# Altium schematic symbol library Components.SchLib: 8 symbols
Pins are listed as number, name and electrical type; pins without a type are passive.

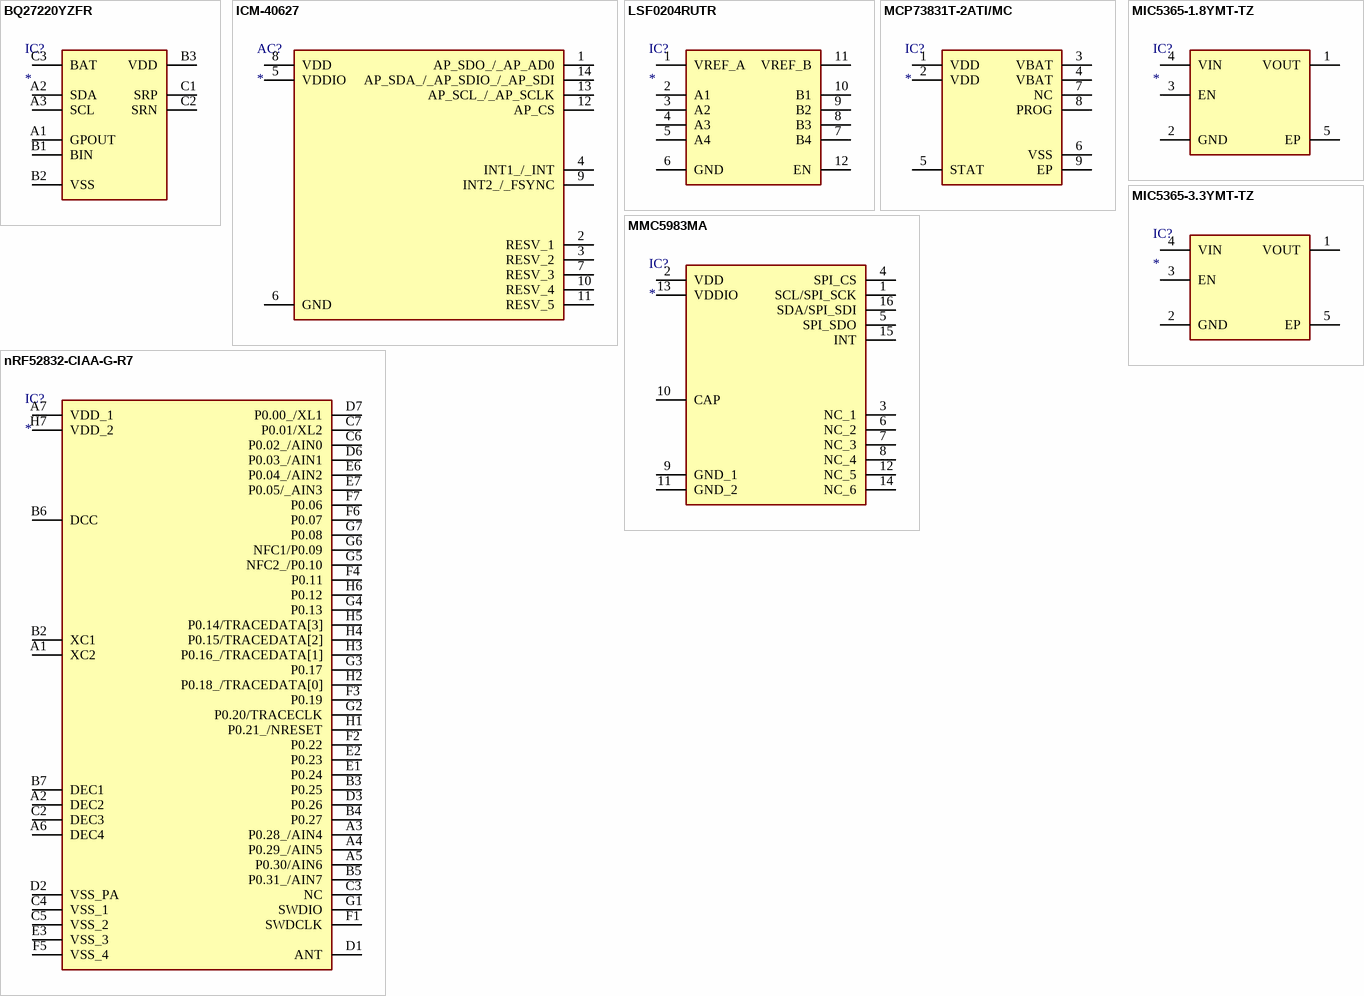
[diagram p0: symbols BQ27220YZFR to nRF52832-CIAA-G-R7]

## BQ27220YZFR
designator IC?
Integrated Circuit; Manufacturer_Name: Texas Instruments; Manufacturer_Part_Number: BQ27220YZFR; Datasheet Link: http://www.ti.com/lit/ds/symlink/bq27220.pdf; Height: 0.625mm; Mouser Part Number: 595-BQ27220YZFR; Mouser Price/Stock: https://www.mouser.co.uk/ProductDetail/Texas-Instruments/BQ27220YZFR?qs=dSktwyqbRaX%252B5G1xe9oNWw%3D%3D; Arrow Part Number: BQ27220YZFR; Arrow Price/Stock: https://www.arrow.com/en/products/bq27220yzfr/texas-instruments?region=nac
footprint BGA9C50P3X3_158X162X62
pins: A1 GPOUT, A2 SDA, A3 SCL, B1 BIN, B2 VSS, B3 VDD, C1 SRP, C2 SRN, C3 BAT

## ICM-40627
designator AC?
Accelerometer; Manufacturer_Name: TDK; Manufacturer_Part_Number: ICM-40627; Datasheet Link: https://3cfeqx1hf82y3xcoull08ihx-wpengine.netdna-ssl.com/wp-content/uploads/2021/04/DS-000381-ICM-40627-v1.2.pdf; Mouser Part Number: 410-ICM-40627; Mouser Price/Stock: https://www.mouser.co.uk/ProductDetail/TDK-InvenSense/ICM-40627?qs=iLbezkQI%252BsgePVjJNSY7vQ%3D%3D; Arrow Part Number: ICM-40627; Arrow Price/Stock: https://www.arrow.com/en/products/icm-40627/invensense?region=nac
footprint ICM-40627
pins: 1 AP_SDO_/_AP_AD0, 2 RESV_1, 3 RESV_2, 4 INT1_/_INT, 5 VDDIO, 6 GND, 7 RESV_3, 8 VDD, 9 INT2_/_FSYNC, 10 RESV_4, 11 RESV_5, 12 AP_CS, 13 AP_SCL_/_AP_SCLK, 14 AP_SDA_/_AP_SDIO_/_AP_SDI

## LSF0204RUTR
designator IC?
Integrated Circuit; Manufacturer_Name: Texas Instruments; Manufacturer_Part_Number: LSF0204RUTR; Description: 4-Bit Bidirectional Multi-Voltage Level Translator for Open-Drain & Push- Pull; Datasheet Link: http://www.ti.com/lit/gpn/lsf0204; Mouser Part Number: 595-LSF0204RUTR; Mouser Price/Stock: https://www.mouser.co.uk/ProductDetail/Texas-Instruments/LSF0204RUTR?qs=m%2F7bTylgptfw1v7l22jn0g%3D%3D; Arrow Part Number: LSF0204RUTR; Arrow Price/Stock: https://www.arrow.com/en/products/lsf0204rutr/texas-instruments?region=nac
footprint RUT(R-PUQFN-N12)
pins: 1 VREF_A, 2 A1, 3 A2, 4 A3, 5 A4, 6 GND, 7 B4, 8 B3, 9 B2, 10 B1, 11 VREF_B, 12 EN

## MCP73831T-2ATI/MC
designator IC?
Battery Management Charge mgnt contr; Manufacturer_Name: Microchip; Manufacturer_Part_Number: MCP73831T-2ATI/MC; Datasheet Link: https://www.mouser.pl/datasheet/2/268/20001984g-846362.pdf; Mouser Part Number: 579-MCP73831T-2ATIMC
footprint SON65P300X300X80-9N-D
pins: 1 VDD, 2 VDD, 3 VBAT, 4 VBAT, 5 STAT, 6 VSS, 7 NC, 8 PROG, 9 EP

## MIC5365-1.8YMT-TZ
designator IC?
Manufacturer_Name: MICREL; Manufacturer_Part_Number: MIC5365-1.8YMT-TZ; Datasheet Link: https://www.mouser.pl/datasheet/2/268/mic5365-1082359.pdf; Mouser Part Number: 998-MIC5365-3.3YMTTZ
footprint MIC5365-1.8YMTTZ
pins: 1 VOUT, 2 GND, 3 EN, 4 VIN, 5 EP

## MIC5365-3.3YMT-TZ
designator IC?
Manufacturer_Name: MICREL; Manufacturer_Part_Number: MIC5365-3.3YMT-TZ; Datasheet Link: https://www.mouser.pl/datasheet/2/268/mic5365-1082359.pdf; Mouser Part Number: 998-MIC5365-3.3YMTTZ
footprint MIC5365-3.3YMTTZ
pins: 1 VOUT, 2 GND, 3 EN, 4 VIN, 5 EP

## MMC5983MA
designator IC?
Integrated Circuit; Manufacturer_Name: MEMSIC; Manufacturer_Part_Number: MMC5983MA; Datasheet Link: https://www.mouser.com/datasheet/2/821/Memsic_09102019_MMC5983MA_Datasheet_Rev_A-1635338.pdf; Height: 1mm; Mouser Part Number: 438-MMC5983MA; Mouser Price/Stock: https://www.mouser.co.uk/ProductDetail/MEMSIC/MMC5983MA?qs=B6kkDfuK7%2FD5qasHMdEt2g%3D%3D; Arrow Part Number: MMC5983MA; Arrow Price/Stock: https://www.arrow.com/en/products/mmc5983ma/memsic?region=nac
footprint MMC5983MA
pins: 1 SCL/SPI_SCK, 2 VDD, 3 NC_1, 4 SPI_CS, 5 SPI_SDO, 6 NC_2, 7 NC_3, 8 NC_4, 9 GND_1, 10 CAP, 11 GND_2, 12 NC_5, 13 VDDIO, 14 NC_6, 15 INT, 16 SDA/SPI_SDI

## nRF52832-CIAA-G-R7
designator IC?
Integrated Circuit; Manufacturer_Name: Nordic Semiconductor; Manufacturer_Part_Number: nRF52832-CIAA-G-R7; Datasheet Link: https://infocenter.nordicsemi.com/pdf/nRF52832_PS_v1.8.pdf; Height: 0.399mm; Mouser Part Number: 949-NRF52832CIAAG-R7; Mouser Price/Stock: https://www.mouser.co.uk/ProductDetail/Nordic-Semiconductor/nRF52832-CIAA-G-R7?qs=TCDPyi3sCW0%252B18bmEBENMQ%3D%3D; Arrow Part Number: NRF52832-CIAA-G-R7; Arrow Price/Stock: https://www.arrow.com/en/products/nrf52832-ciaa-g-r7/nordic-semiconductor?region=nac
footprint BGA50C40P7X8_296X323X40
pins: A1 XC2, A2 DEC2, A3 P0.28_/AIN4, A4 P0.29_/AIN5, A5 P0.30/AIN6, A6 DEC4, A7 VDD_1, B2 XC1, B3 P0.25, B4 P0.27, B5 P0.31_/AIN7, B6 DCC, B7 DEC1, C2 DEC3, C3 NC, C4 VSS_1, C5 VSS_2, C6 P0.02_/AIN0, C7 P0.01/XL2, D1 ANT, D2 VSS_PA, D3 P0.26, D6 P0.03_/AIN1, D7 P0.00_/XL1, E1 P0.24, E2 P0.23, E3 VSS_3, E6 P0.04_/AIN2, E7 P0.05/_AIN3, F1 SWDCLK, F2 P0.22, F3 P0.19, F4 P0.11, F5 VSS_4, F6 P0.07, F7 P0.06, G1 SWDIO, G2 P0.20/TRACECLK, G3 P0.17, G4 P0.13, G5 NFC2_/P0.10, G6 NFC1/P0.09, G7 P0.08, H1 P0.21_/NRESET, H2 P0.18_/TRACEDATA[0], H3 P0.16_/TRACEDATA[1], H4 P0.15/TRACEDATA[2], H5 P0.14/TRACEDATA[3], H6 P0.12, H7 VDD_2